# EAGLE library part 690357100872 (library Eagle_BOARD-TO-BOARD_CONNECTORS (rev18b))
WR-MM Male Connector with Polarization, 8 Pins=>Code : Con_BTB_MM_Male_THT_690357100872 <http://katalog.we-online.de/media/thumbs2/eican/thb_Con_BTB_MM_Male_THT_69035710xx72_pf2.jpg> Details see: http://katalog.we-online.de/en/em/6903_5710_xx_72 Created 2014-06-04, Karrer Zheng 2014 (C) Würth Elektronik
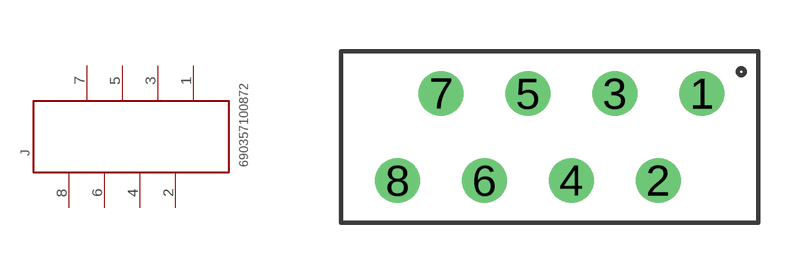
[diagram p306: symbol with the pads of 690357100872; footprint 690357100872]

Designator prefix J

## 690357100872  [690357100872]
1  8  pas
2  7  pas
3  6  pas
4  5  pas
5  4  pas
6  3  pas
7  2  pas
8  1  pas

## Footprint 690357100872 (pad centres in mm)
WR-MM Male Connector with Polarization, 8 Pins
drill 0.8: 1 4.445,1.27; 2 3.175,-1.27; 3 1.905,1.27; 4 0.635,-1.27; 5 -0.635,1.27; 6 -1.905,-1.27; 7 -3.175,1.27; 8 -4.445,-1.27